# EAGLE library part TXS0101 (library neopixelwordclock)
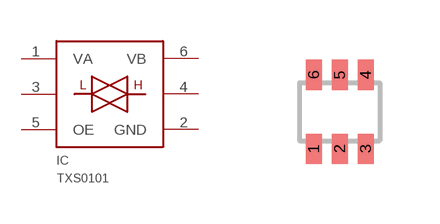
[diagram p9: symbol with the pads of SC70-6; footprint SC70-6]

Designator prefix IC

## TXS0101-SC70  [SC70-6]
1  VA  in
2  GND  in
3  A
4  B
5  OE  in
6  VB  in

## Footprint SC70-6 (pad centres in mm)
smd 0.4 x 0.75: 1 -0.65,-0.925; 2 0,-0.925; 3 0.65,-0.925; 4 0.65,0.925; 5 0,0.925; 6 -0.65,0.925